# EAGLE library part RF-WM-3200 (library boydcircuits)
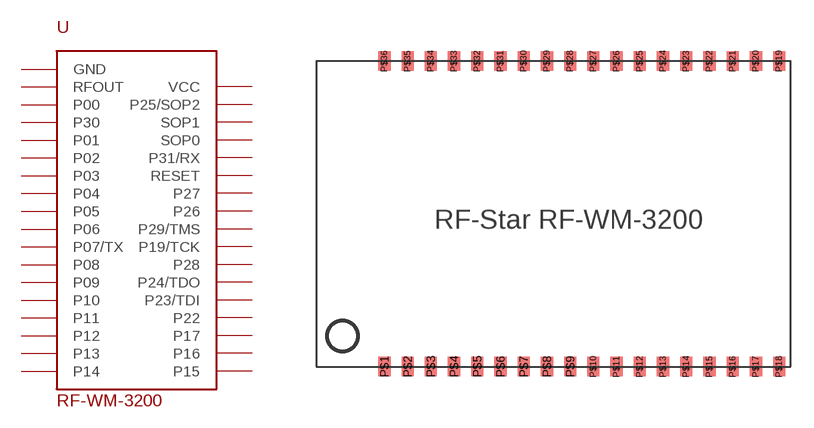
[diagram p0: symbol with the pads of RF-WM-3200; footprint RF-WM-3200]

Designator prefix U

## RF-WM-3200  [RF-WM-3200]
P$1  GND
P$2  RFOUT
P$3  P00
P$4  P30
P$5  P01
P$6  P02
P$7  P03
P$8  P04
P$9  P05
P$10  P06
P$11  P07/TX
P$12  P08
P$13  P09
P$14  P10
P$15  P11
P$16  P12
P$17  P13
P$18  P14
P$19  P15
P$20  P16
P$21  P17
P$22  P22
P$23  P23/TDI
P$24  P24/TDO
P$25  P28
P$26  P19/TCK
P$27  P29/TMS
P$28  P26
P$29  P27
P$30  RESET
P$31  P31/RX
P$32  SOP0
P$33  SOP1
P$34  P25/SOP2
P$35  VCC
P$36  GND

## Footprint RF-WM-3200 (pad centres in mm)
smd 0.8 x 1.27: P$1 0.75,0; P$2 2.27,0; P$3 3.79,0; P$4 5.31,0; P$5 6.83,0; P$6 8.35,0; P$7 9.87,0; P$8 11.39,0; P$9 12.91,0; P$10 14.43,0; P$11 15.95,0; P$12 17.47,0; P$13 18.99,0; P$14 20.51,0; P$15 22.03,0; P$16 23.55,0; P$17 25.07,0; P$18 26.59,0; P$19 26.59,20; P$20 25.07,20; P$21 23.55,20; P$22 22.03,20; P$23 20.51,20; P$24 18.99,20; P$25 17.47,20; P$26 15.95,20; P$27 14.43,20; P$28 12.91,20; P$29 11.39,20; P$30 9.87,20; P$31 8.35,20; P$32 6.83,20; P$33 5.31,20; P$34 3.79,20; P$35 2.27,20; P$36 0.75,20